# Altium schematic symbol library 74HC595.SchLib: 1 symbol
Pins are listed as number, name and electrical type; pins without a type are passive.

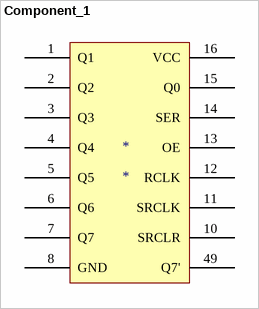
[diagram p0: symbol Component_1]

## Component_1
designator *
pins: 1 Q1 (power), 2 Q2 (power), 3 Q3 (power), 4 Q4 (power), 5 Q5 (power), 6 Q6 (power), 7 Q7 (power), 8 GND (power), 10 SRCLR (power), 11 SRCLK (power), 12 RCLK (power), 13 OE (power), 14 SER (power), 15 Q0 (power), 16 VCC (power), 49 Q7' (power)